# EAGLE library part HEADE5X2 (library CONNECTORS)
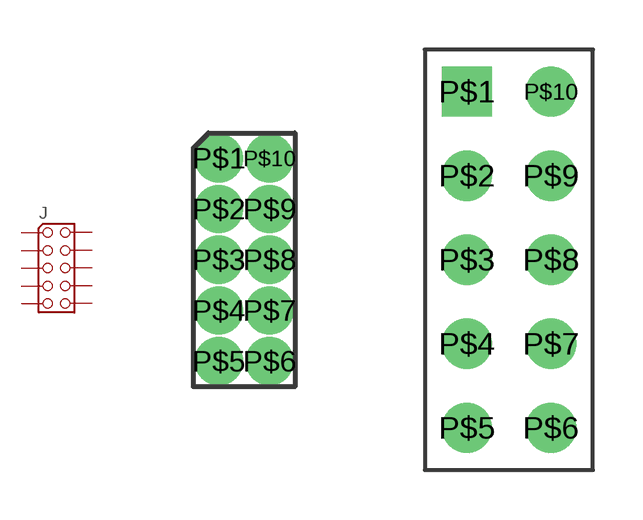
[diagram p0: symbol with the pads of HEADER2X5.05; footprints HEADER2X5.05, HEADER2X5_.1]

Designator prefix J

## HEADE5X2.05VERT (DIGIKEY: 609-3712-ND)  [HEADER2X5.05]
P$1  P$1
P$2  P$2
P$3  P$3
P$4  P$4
P$5  P$5
P$6  P$6
P$7  P$7
P$8  P$8
P$9  P$9
P$10  P$10

## HEADE5X2.1VERT  [HEADER2X5_.1]
Pads as for HEADER2X5.05

## Footprint HEADER2X5.05 (pad centres in mm)
drill 0.7 pad 1.016: P$1 -0.635,2.54; P$2 -0.635,1.27; P$3 -0.635,0; P$4 -0.635,-1.27; P$5 -0.635,-2.54; P$6 0.635,-2.54; P$7 0.635,-1.27; P$8 0.635,0; P$9 0.635,1.27; P$10 0.635,2.54

## Footprint HEADER2X5_.1 (pad centres in mm)
drill 1.016 square: P$1 -1.27,5.08
drill 1.016: P$2 -1.27,2.54; P$3 -1.27,0; P$4 -1.27,-2.54; P$5 -1.27,-5.08; P$6 1.27,-5.08; P$7 1.27,-2.54; P$8 1.27,0; P$9 1.27,2.54; P$10 1.27,5.08